# Altium footprint library STPS1L20MF.PcbLib: 1 footprints
Each footprint in its own frame and in the unit in brackets; x right, y up, seen from the top. Pads: shape width x height; smd on the part's side, far side on the other; paste and mask are expansions set on the pad; w line width, h text height; cw(c..) or ccw(c..) is an arc to the next point about the centre after c.
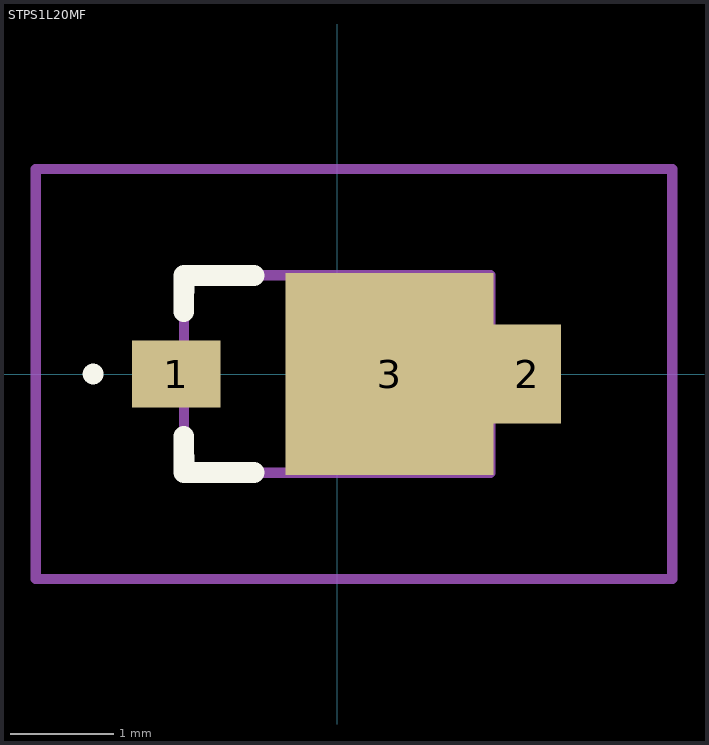
[diagram p0: the footprint, top view; thin cyan lines are the x and y axes]

## STPS1L20MF [mm]
pads (3):
  rect 0.85x0.65 smd: 1(-1.55,0)
  rect 0.65x0.95 smd: 2(1.83,0)
  rect 2x1.95 smd: 3(0.505,0)
Top Overlay:
  lines w0.1: -2.4,0 -2.4,0 ; -2.4,0 ccw(c-2.35,0) -2.3,0 ; -2.4,0 cw(c-2.35,0) -2.3,0 ; -2.3,0 -2.3,0
  lines w0.2: -1.478,-0.6 -1.475,-0.95 -0.8,-0.95 ; -1.478,0.6 -1.475,0.95 -0.8,0.95
Mechanical 15:
  lines w0.1: -1.475,-0.95 1.475,-0.95 1.475,0.95 -1.475,0.95 -1.475,-0.95
Mechanical 20:
  lines w0.1: -2.902,-1.975 3.228,-1.975 3.228,1.975 -2.902,1.975 -2.902,-1.975